# Altium footprint library Dual-In-Line Package.PcbLib: 149 footprints (part 2 of 10)
Each footprint in its own frame and in the unit in brackets; x right, y up, seen from the top. Pads: shape width x height; smd on the part's side, far side on the other; paste and mask are expansions set on the pad; w line width, h text height; cw(c..) or ccw(c..) is an arc to the next point about the centre after c.
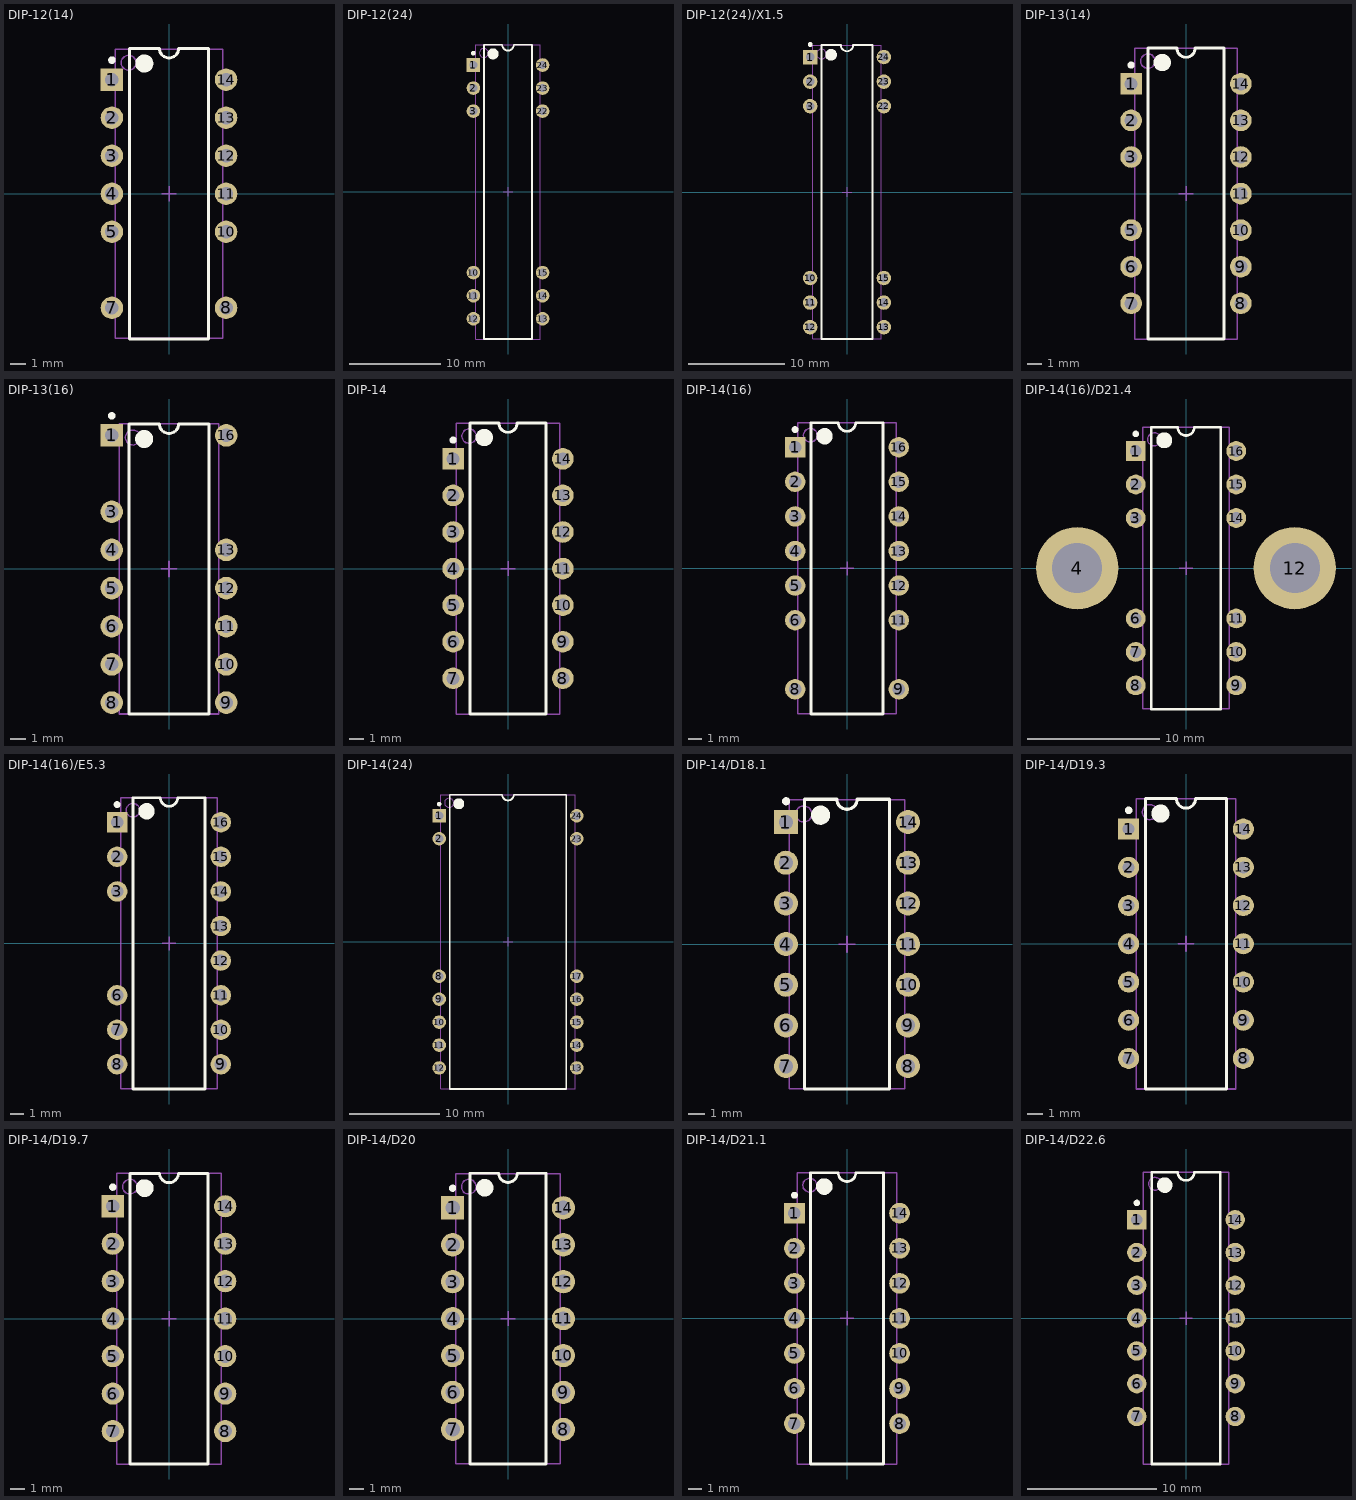
[diagram p1: the footprints below, top view; thin cyan lines are the x and y axes]

## DIP-12(14) [mm] "DIP, 14-Pin (2 Absent), Row Spacing 7.62 mm, Pitch 2.54 mm"
height 4.2
pads (12):
  rect 1.5x1.5 hole 0.9: 1(-3.81,7.62)
  round 1.5 hole 0.9: 2(-3.81,5.08) 3(-3.81,2.54) 4(-3.81,0) 5(-3.81,-2.54) 7(-3.81,-7.62) 8(3.81,-7.62) 10(3.81,-2.54) 11(3.81,0) 12(3.81,2.54) 13(3.81,5.08) 14(3.81,7.62)
Top Overlay:
  circle w0.6: c-1.65,8.7 r0.3
  circle w0.25: c-3.81,8.92 r0.125
  lines w0.2: -2.65,-9.7 2.65,-9.7 2.65,9.7 0.635,9.7 cw(c0,9.7) -0.635,9.7 -2.65,9.7 -2.65,-9.7
Mechanical 13:
  circle w0.1: c-2.7,8.75 r0.5
  lines w0.1: -3.6,-9.65 3.6,-9.65 3.6,9.65 -3.6,9.65 -3.6,-9.65
Mechanical 15:
  lines w0.1: -0.5,0 0.5,0 ; 0,-0.5 0,0.5
3D body: height 4.2, standoff 0, extent -3.6,-9.65 3.6,9.65

## DIP-12(24) [mm] "DIP, 24-Pin (12 Absent), Row Spacing 7.62 mm, Pitch 2.54 mm"
height 5.33
pads (12):
  rect 1.5x1.5 hole 0.9: 1(-3.81,13.97)
  round 1.5 hole 0.9: 2(-3.81,11.43) 3(-3.81,8.89) 10(-3.81,-8.89) 11(-3.81,-11.43) 12(-3.81,-13.97) 13(3.81,-13.97) 14(3.81,-11.43) 15(3.81,-8.89) 22(3.81,8.89) 23(3.81,11.43) 24(3.81,13.97)
Top Overlay:
  circle w0.25: c-3.81,15.27 r0.125
  circle w0.6: c-1.65,15.2 r0.3
  lines w0.2: -2.65,-16.2 -2.65,16.2 -0.635,16.2 ccw(c0,16.2) 0.635,16.2 2.65,16.2 2.65,-16.2 -2.65,-16.2
Mechanical 13:
  circle w0.1: c-2.65,15.3 r0.5
  lines w0.1: -3.55,-16.2 -3.55,16.2 3.55,16.2 3.55,-16.2 -3.55,-16.2
Mechanical 15:
  lines w0.1: -0.5,0 0.5,0 ; 0,-0.5 0,0.5
3D body: height 5.33, standoff 0, extent -3.55,-16.2 3.55,16.2

## DIP-12(24)/X1.5 [mm] "DIP, 24-Pin (12 Absent), Row Spacing 7.62 mm, Pitch 2.54 mm"
height 5.33
pads (12):
  rect 1.5x1.5 hole 0.9: 1(-3.81,13.97)
  round 1.5 hole 0.9: 2(-3.81,11.43) 3(-3.81,8.89) 10(-3.81,-8.89) 11(-3.81,-11.43) 12(-3.81,-13.97) 13(3.81,-13.97) 14(3.81,-11.43) 15(3.81,-8.89) 22(3.81,8.89) 23(3.81,11.43) 24(3.81,13.97)
Top Overlay:
  circle w0.25: c-3.81,15.27 r0.125
  circle w0.6: c-1.65,14.2 r0.3
  lines w0.2: -2.65,-15.2 -2.65,15.2 -0.635,15.2 ccw(c0,15.2) 0.635,15.2 2.65,15.2 2.65,-15.2 -2.65,-15.2
Mechanical 13:
  circle w0.1: c-2.65,14.275 r0.5
  lines w0.1: -3.55,-15.175 -3.55,15.175 3.55,15.175 3.55,-15.175 -3.55,-15.175
Mechanical 15:
  lines w0.1: -0.5,0 0.5,0 ; 0,-0.5 0,0.5
3D body: height 5.33, standoff 0, extent -3.55,-15.175 3.55,15.175

## DIP-13(14) [mm] "DIP, 14-Pin (1 Absent), Row Spacing 7.62 mm, Pitch 2.54 mm"
height 5.33
pads (13):
  rect 1.5x1.5 hole 0.9: 1(-3.81,7.62)
  round 1.5 hole 0.9: 2(-3.81,5.08) 3(-3.81,2.54) 5(-3.81,-2.54) 6(-3.81,-5.08) 7(-3.81,-7.62) 8(3.81,-7.62) 9(3.81,-5.08) 10(3.81,-2.54) 11(3.81,0) 12(3.81,2.54) 13(3.81,5.08) 14(3.81,7.62)
Top Overlay:
  circle w0.25: c-3.81,8.92 r0.125
  circle w0.6: c-1.65,9.1 r0.3
  lines w0.2: -2.65,-10.1 -2.65,10.1 -0.635,10.1 ccw(c0,10.1) 0.635,10.1 2.65,10.1 2.65,-10.1 -2.65,-10.1
Mechanical 13:
  circle w0.1: c-2.65,9.2 r0.5
  lines w0.1: -3.55,-10.1 -3.55,10.1 3.55,10.1 3.55,-10.1 -3.55,-10.1
Mechanical 15:
  lines w0.1: -0.5,0 0.5,0 ; 0,-0.5 0,0.5
3D body: height 5.33, standoff 0, extent -3.55,-10.1 3.55,10.1

## DIP-13(16) [mm] "DIP, Plastic, 16-Pin (3 Absent), Row Spacing 7.62 mm, Pitch 2.54 mm"
height 4.44
pads (13):
  rect 1.5x1.5 hole 0.9: 1(-3.81,8.89)
  round 1.5 hole 0.9: 3(-3.81,3.81) 4(-3.81,1.27) 5(-3.81,-1.27) 6(-3.81,-3.81) 7(-3.81,-6.35) 8(-3.81,-8.89) 9(3.81,-8.89) 10(3.81,-6.35) 11(3.81,-3.81) 12(3.81,-1.27) 13(3.81,1.27) 16(3.81,8.89)
Top Overlay:
  circle w0.25: c-3.81,10.19 r0.125
  circle w0.6: c-1.65,8.65 r0.3
  lines w0.2: -2.65,-9.65 -2.65,9.65 -0.635,9.65 ccw(c0,9.65) 0.635,9.65 2.65,9.65 2.65,-9.65 -2.65,-9.65
Mechanical 13:
  circle w0.1: c-2.4,8.75 r0.5
  lines w0.1: -3.3,-9.65 -3.3,9.65 3.3,9.65 3.3,-9.65 -3.3,-9.65
Mechanical 15:
  lines w0.1: -0.5,0 0.5,0 ; 0,-0.5 0,0.5
3D body: height 4.44, standoff 0, extent -3.3,-9.65 3.3,9.65

## DIP-14 [mm] "DIP, 14-Pin, Row Spacing 7.62 mm, Pitch 2.54 mm"
height 5.08
pads (14):
  rect 1.5x1.5 hole 0.9: 1(-3.81,7.62)
  round 1.5 hole 0.9: 2(-3.81,5.08) 3(-3.81,2.54) 4(-3.81,0) 5(-3.81,-2.54) 6(-3.81,-5.08) 7(-3.81,-7.62) 8(3.81,-7.62) 9(3.81,-5.08) 10(3.81,-2.54) 11(3.81,0) 12(3.81,2.54) 13(3.81,5.08) 14(3.81,7.62)
Top Overlay:
  circle w0.6: c-1.65,9.1 r0.3
  circle w0.25: c-3.81,8.92 r0.125
  lines w0.2: -2.65,-10.1 2.65,-10.1 2.65,10.1 0.635,10.1 cw(c0,10.1) -0.635,10.1 -2.65,10.1 -2.65,-10.1
Mechanical 13:
  circle w0.1: c-2.7,9.2 r0.5
  lines w0.1: -3.6,-10.1 3.6,-10.1 3.6,10.1 -3.6,10.1 -3.6,-10.1
Mechanical 15:
  lines w0.1: -0.5,0 0.5,0 ; 0,-0.5 0,0.5
3D body: height 5.08, standoff 0, extent -3.6,-10.1 3.6,10.1

## DIP-14(16) [mm] "DIP, 16-Pin (2 Absent), Row Spacing 7.62 mm, Pitch 2.54 mm"
height 4.2
pads (14):
  rect 1.5x1.5 hole 0.9: 1(-3.81,8.89)
  round 1.5 hole 0.9: 2(-3.81,6.35) 3(-3.81,3.81) 4(-3.81,1.27) 5(-3.81,-1.27) 6(-3.81,-3.81) 8(-3.81,-8.89) 9(3.81,-8.89) 11(3.81,-3.81) 12(3.81,-1.27) 13(3.81,1.27) 14(3.81,3.81) 15(3.81,6.35) 16(3.81,8.89)
Top Overlay:
  circle w0.25: c-3.81,10.19 r0.125
  circle w0.6: c-1.65,9.7 r0.3
  lines w0.2: -2.65,-10.7 -2.65,10.7 -0.635,10.7 ccw(c0,10.7) 0.635,10.7 2.65,10.7 2.65,-10.7 -2.65,-10.7
Mechanical 13:
  circle w0.1: c-2.7,9.775 r0.5
  lines w0.1: -3.6,-10.675 -3.6,10.675 3.6,10.675 3.6,-10.675 -3.6,-10.675
Mechanical 15:
  lines w0.1: -0.5,0 0.5,0 ; 0,-0.5 0,0.5
3D body: height 4.2, standoff 0, extent -3.6,-10.675 3.6,10.675

## DIP-14(16)/D21.4 [mm] "DIP, 16-Leads (4 Absent), Row Spacing 7.62mm, Pitch 2.54mm, with 2 Heatsink tabs"
height 4.57
pads (14):
  rect 1.5x1.5 hole 0.9: 1(-3.81,8.89)
  round 1.5 hole 0.9: 2(-3.81,6.35) 3(-3.81,3.81) 6(-3.81,-3.81) 7(-3.81,-6.35) 8(-3.81,-8.89) 9(3.81,-8.89) 10(3.81,-6.35) 11(3.81,-3.81) 14(3.81,3.81) 15(3.81,6.35) 16(3.81,8.89)
  round 6.25 hole 3.8: 4(-8.255,0.004) 12(8.255,0.004)
Top Overlay:
  circle w0.25: c-3.81,10.19 r0.125
  circle w0.6: c-1.65,9.7 r0.3
  lines w0.2: -2.65,-10.7 -2.65,10.7 -0.635,10.7 ccw(c0,10.7) 0.635,10.7 2.65,10.7 2.65,-10.7 -2.65,-10.7
Mechanical 13:
  circle w0.1: c-2.4,9.775 r0.5
  lines w0.1: -3.3,-10.675 -3.3,10.675 3.3,10.675 3.3,-10.675 -3.3,-10.675
Mechanical 15:
  lines w0.1: -0.5,0 0.5,0 ; 0,-0.5 0,0.5
3D body: height 4.57, standoff 0, extent -3.3,-10.675 3.3,10.675

## DIP-14(16)/E5.3 [mm] "DIP, 16-Pin (2 Absent), Row Spacing 7.62 mm, Pitch 2.54 mm"
height 5.33
pads (14):
  rect 1.5x1.5 hole 0.9: 1(-3.81,8.89)
  round 1.5 hole 0.9: 2(-3.81,6.35) 3(-3.81,3.81) 6(-3.81,-3.81) 7(-3.81,-6.35) 8(-3.81,-8.89) 9(3.81,-8.89) 10(3.81,-6.35) 11(3.81,-3.81) 12(3.81,-1.27) 13(3.81,1.27) 14(3.81,3.81) 15(3.81,6.35) 16(3.81,8.89)
Top Overlay:
  circle w0.25: c-3.81,10.19 r0.125
  circle w0.6: c-1.65,9.7 r0.3
  lines w0.2: -2.65,-10.7 -2.65,10.7 -0.635,10.7 ccw(c0,10.7) 0.635,10.7 2.65,10.7 2.65,-10.7 -2.65,-10.7
Mechanical 13:
  circle w0.1: c-2.65,9.775 r0.5
  lines w0.1: -3.55,-10.675 -3.55,10.675 3.55,10.675 3.55,-10.675 -3.55,-10.675
Mechanical 15:
  lines w0.1: -0.5,0 0.5,0 ; 0,-0.5 0,0.5
3D body: height 5.33, standoff 0, extent -3.55,-10.675 3.55,10.675

## DIP-14(24) [mm] "DIP, 24-Pin (10 Absent), Row Spacing 15.24 mm, Pitch 2.54 mm"
height 9.4
pads (14):
  rect 1.5x1.5 hole 0.9: 1(-7.62,13.97)
  round 1.5 hole 0.9: 2(-7.62,11.43) 8(-7.62,-3.81) 9(-7.62,-6.35) 10(-7.62,-8.89) 11(-7.62,-11.43) 12(-7.62,-13.97) 13(7.62,-13.97) 14(7.62,-11.43) 15(7.62,-8.89) 16(7.62,-6.35) 17(7.62,-3.81) 23(7.62,11.43) 24(7.62,13.97)
Top Overlay:
  circle w0.25: c-7.62,15.27 r0.125
  circle w0.6: c-5.45,15.3 r0.3
  lines w0.2: -6.45,-16.3 -6.45,16.3 -0.635,16.3 ccw(c0,16.3) 0.635,16.3 6.45,16.3 6.45,-16.3 -6.45,-16.3
Mechanical 13:
  circle w0.1: c-6.525,15.4 r0.5
  lines w0.1: -7.425,-16.3 -7.425,16.3 7.425,16.3 7.425,-16.3 -7.425,-16.3
Mechanical 15:
  lines w0.1: -0.5,0 0.5,0 ; 0,-0.5 0,0.5
3D body: height 9.4, standoff 0, extent -7.425,-16.3 7.425,16.3

## DIP-14/D18.1 [mm] "DIP, 14-Pin, Row Spacing 7.62 mm, Pitch 2.54 mm"
height 5.08
pads (14):
  rect 1.5x1.5 hole 0.9: 1(-3.81,7.62)
  round 1.5 hole 0.9: 2(-3.81,5.08) 3(-3.81,2.54) 4(-3.81,0) 5(-3.81,-2.54) 6(-3.81,-5.08) 7(-3.81,-7.62) 8(3.81,-7.62) 9(3.81,-5.08) 10(3.81,-2.54) 11(3.81,0) 12(3.81,2.54) 13(3.81,5.08) 14(3.81,7.62)
Top Overlay:
  circle w0.6: c-1.65,8.05 r0.3
  circle w0.25: c-3.81,8.92 r0.125
  lines w0.2: -2.65,-9.05 2.65,-9.05 2.65,9.05 0.635,9.05 cw(c0,9.05) -0.635,9.05 -2.65,9.05 -2.65,-9.05
Mechanical 13:
  circle w0.1: c-2.7,8.125 r0.5
  lines w0.1: -3.6,-9.025 3.6,-9.025 3.6,9.025 -3.6,9.025 -3.6,-9.025
Mechanical 15:
  lines w0.1: -0.5,0 0.5,0 ; 0,-0.5 0,0.5
3D body: height 5.08, standoff 0, extent -3.6,-9.025 3.6,9.025

## DIP-14/D19.3 [mm] "DIP, 14-Pin, Row Spacing 7.62 mm, Pitch 2.54 mm"
height 5.08
pads (14):
  rect 1.4x1.4 hole 0.8: 1(-3.81,7.62)
  round 1.4 hole 0.8: 2(-3.81,5.08) 3(-3.81,2.54) 4(-3.81,0) 5(-3.81,-2.54) 6(-3.81,-5.08) 7(-3.81,-7.62) 8(3.81,-7.62) 9(3.81,-5.08) 10(3.81,-2.54) 11(3.81,0) 12(3.81,2.54) 13(3.81,5.08) 14(3.81,7.62)
Top Overlay:
  circle w0.6: c-1.7,8.65 r0.3
  circle w0.25: c-3.81,8.87 r0.125
  lines w0.2: -2.7,-9.65 2.7,-9.65 2.7,9.65 0.635,9.65 cw(c0,9.65) -0.635,9.65 -2.7,9.65 -2.7,-9.65
Mechanical 13:
  circle w0.1: c-2.4,8.75 r0.5
  lines w0.1: -3.3,-9.65 3.3,-9.65 3.3,9.65 -3.3,9.65 -3.3,-9.65
Mechanical 15:
  lines w0.1: -0.5,0 0.5,0 ; 0,-0.5 0,0.5
3D body: height 5.08, standoff 0, extent -3.3,-9.65 3.3,9.65

## DIP-14/D19.7 [mm] "DIP, 14-Pin, Row Spacing 7.62 mm, Pitch 2.54 mm"
height 5.33
pads (14):
  rect 1.5x1.5 hole 0.9: 1(-3.81,7.62)
  round 1.5 hole 0.9: 2(-3.81,5.08) 3(-3.81,2.54) 4(-3.81,0) 5(-3.81,-2.54) 6(-3.81,-5.08) 7(-3.81,-7.62) 8(3.81,-7.62) 9(3.81,-5.08) 10(3.81,-2.54) 11(3.81,0) 12(3.81,2.54) 13(3.81,5.08) 14(3.81,7.62)
Top Overlay:
  circle w0.6: c-1.65,8.85 r0.3
  circle w0.25: c-3.81,8.92 r0.125
  lines w0.2: -2.65,-9.85 2.65,-9.85 2.65,9.85 0.635,9.85 cw(c0,9.85) -0.635,9.85 -2.65,9.85 -2.65,-9.85
Mechanical 13:
  circle w0.1: c-2.65,8.95 r0.5
  lines w0.1: -3.55,-9.85 3.55,-9.85 3.55,9.85 -3.55,9.85 -3.55,-9.85
Mechanical 15:
  lines w0.1: -0.5,0 0.5,0 ; 0,-0.5 0,0.5
3D body: height 5.33, standoff 0, extent -3.55,-9.85 3.55,9.85

## DIP-14/D20 [mm] "DIP, Ceramic, Frit Seal, 14-Pin, Row Spacing 7.62 mm, Pitch 2.54 mm"
height 5.08
pads (14):
  rect 1.6x1.6 hole 1: 1(-3.81,7.62)
  round 1.6 hole 1: 2(-3.81,5.08) 3(-3.81,2.54) 4(-3.81,0) 5(-3.81,-2.54) 6(-3.81,-5.08) 7(-3.81,-7.62) 8(3.81,-7.62) 9(3.81,-5.08) 10(3.81,-2.54) 11(3.81,0) 12(3.81,2.54) 13(3.81,5.08) 14(3.81,7.62)
Top Overlay:
  circle w0.6: c-1.6,9 r0.3
  circle w0.25: c-3.81,8.97 r0.125
  lines w0.2: -2.6,-10 2.6,-10 2.6,10 0.635,10 cw(c0,10) -0.635,10 -2.6,10 -2.6,-10
Mechanical 13:
  circle w0.1: c-2.7,9.075 r0.5
  lines w0.1: -3.6,-9.975 3.6,-9.975 3.6,9.975 -3.6,9.975 -3.6,-9.975
Mechanical 15:
  lines w0.1: -0.5,0 0.5,0 ; 0,-0.5 0,0.5
3D body: height 5.08, standoff 0, extent -3.6,-9.975 3.6,9.975

## DIP-14/D21.1 [mm] "DIP, Ceramic, 14-Pin, Row Spacing 7.62 mm, Pitch 2.54 mm"
height 4.44
pads (14):
  rect 1.5x1.5 hole 0.9: 1(-3.81,7.62)
  round 1.5 hole 0.9: 2(-3.81,5.08) 3(-3.81,2.54) 4(-3.81,0) 5(-3.81,-2.54) 6(-3.81,-5.08) 7(-3.81,-7.62) 8(3.81,-7.62) 9(3.81,-5.08) 10(3.81,-2.54) 11(3.81,0) 12(3.81,2.54) 13(3.81,5.08) 14(3.81,7.62)
Top Overlay:
  circle w0.6: c-1.65,9.55 r0.3
  circle w0.25: c-3.81,8.92 r0.125
  lines w0.2: -2.65,-10.55 2.65,-10.55 2.65,10.55 0.635,10.55 cw(c0,10.55) -0.635,10.55 -2.65,10.55 -2.65,-10.55
Mechanical 13:
  circle w0.1: c-2.7,9.65 r0.5
  lines w0.1: -3.6,-10.55 3.6,-10.55 3.6,10.55 -3.6,10.55 -3.6,-10.55
Mechanical 15:
  lines w0.1: -0.5,0 0.5,0 ; 0,-0.5 0,0.5
3D body: height 4.44, standoff 0, extent -3.6,-10.55 3.6,10.55

## DIP-14/D22.6 [mm] "DIP, 14-Pin, Row Spacing 7.62 mm, Pitch 2.54 mm"
height 5.08
pads (14):
  rect 1.5x1.5 hole 0.9: 1(-3.81,7.62)
  round 1.5 hole 0.9: 2(-3.81,5.08) 3(-3.81,2.54) 4(-3.81,0) 5(-3.81,-2.54) 6(-3.81,-5.08) 7(-3.81,-7.62) 8(3.81,-7.62) 9(3.81,-5.08) 10(3.81,-2.54) 11(3.81,0) 12(3.81,2.54) 13(3.81,5.08) 14(3.81,7.62)
Top Overlay:
  circle w0.6: c-1.65,10.3 r0.3
  circle w0.25: c-3.81,8.92 r0.125
  lines w0.2: -2.65,-11.3 2.65,-11.3 2.65,11.3 0.635,11.3 cw(c0,11.3) -0.635,11.3 -2.65,11.3 -2.65,-11.3
Mechanical 13:
  circle w0.1: c-2.4,10.4 r0.5
  lines w0.1: -3.3,-11.3 3.3,-11.3 3.3,11.3 -3.3,11.3 -3.3,-11.3
Mechanical 15:
  lines w0.1: -0.5,0 0.5,0 ; 0,-0.5 0,0.5
3D body: height 5.08, standoff 0, extent -3.3,-11.3 3.3,11.3